# EAGLE library part RPIGPIOPINHD-2X13 (library pimoroni)
RASPBERRY PI GPIO PIN HEADER
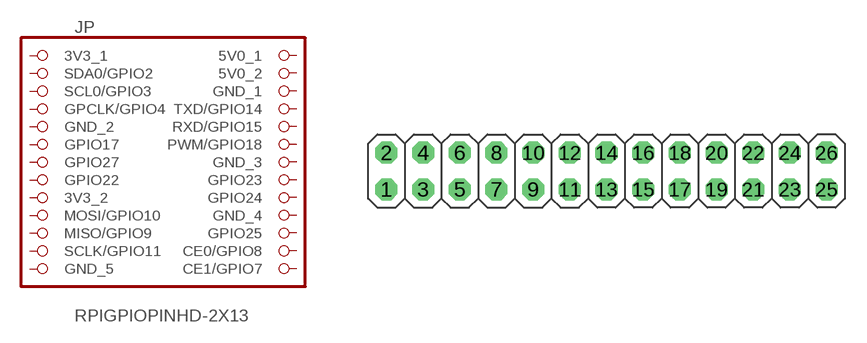
[diagram p7: symbol with the pads of 2X13; footprint 2X13]

Designator prefix JP

## RPIGPIOPINHD-2X13  [2X13]
1  3V3_1  pas
2  5V0_1  pas
3  SDA0/GPIO2  pas
4  5V0_2  pas
5  SCL0/GPIO3  pas
6  GND_1  pas
7  GPCLK/GPIO4  pas
8  TXD/GPIO14  pas
9  GND_2  pas
10  RXD/GPIO15  pas
11  GPIO17  pas
12  PWM/GPIO18  pas
13  GPIO27  pas
14  GND_3  pas
15  GPIO22  pas
16  GPIO23  pas
17  3V3_2  pas
18  GPIO24  pas
19  MOSI/GPIO10  pas
20  GND_4  pas
21  MISO/GPIO9  pas
22  GPIO25  pas
23  SCLK/GPIO11  pas
24  CE0/GPIO8  pas
25  GND_5  pas
26  CE1/GPIO7  pas

## Footprint 2X13 (pad centres in mm)
RASPBERRY PI GPIO PIN HEADER
drill 1.016 octagon: 1 -16.51,-1.27; 2 -16.51,1.27; 3 -13.97,-1.27; 4 -13.97,1.27; 5 -11.43,-1.27; 6 -11.43,1.27; 7 -8.89,-1.27; 8 -8.89,1.27; 9 -6.35,-1.27; 10 -6.35,1.27; 11 -3.81,-1.27; 12 -3.81,1.27; 13 -1.27,-1.27; 14 -1.27,1.27; 15 1.27,-1.27; 16 1.27,1.27; 17 3.81,-1.27; 18 3.81,1.27; 19 6.35,-1.27; 20 6.35,1.27; 21 8.89,-1.27; 22 8.89,1.27; 23 11.43,-1.27; 24 11.43,1.27; 25 13.97,-1.27; 26 13.97,1.27